# EAGLE library part NE570 (library GFE LOGO)
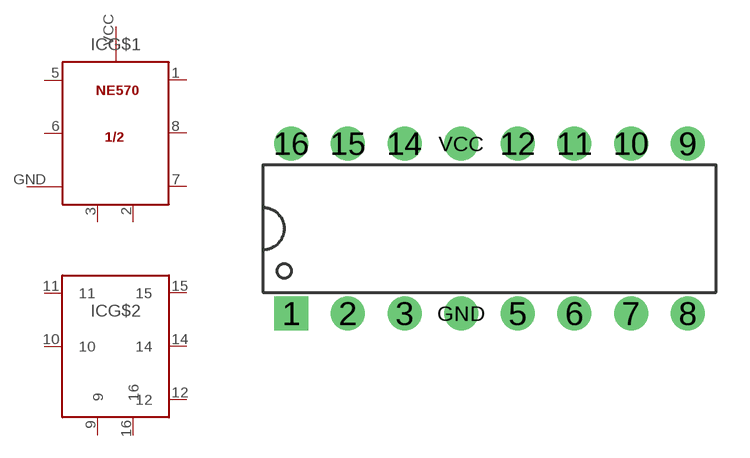
[diagram p1: symbol with the pads of DIL16; footprint DIL16]

Designator prefix IC; gates G$1=NE570 G$3=SUPPLY G$2=NE570_2

## NE570  [DIL16]
1  G$1:1
2  G$1:2
3  G$1:3
5  G$1:5
6  G$1:6
7  G$1:7
8  G$1:8
9  G$2:9
10  G$2:10
11  G$2:11
12  G$2:12
14  G$2:14
15  G$2:15
16  G$2:16
GND  G$3:VSS
VCC  G$3:VCC

## Footprint DIL16 (pad centres in mm)
drill 0.8 pad 1.524 square: 1 -8.89,-3.81
drill 0.8 pad 1.524: 2 -6.35,-3.81; 3 -3.81,-3.81; 5 1.27,-3.81; 6 3.81,-3.81; 7 6.35,-3.81; 8 8.89,-3.81; 9 8.89,3.81; 10 6.35,3.81; 11 3.81,3.81; 12 1.27,3.81; 14 -3.81,3.81; 15 -6.35,3.81; 16 -8.89,3.81; GND -1.27,-3.81; VCC -1.27,3.81